# EAGLE library part SIM-HOLDER (library 23K_candrian)
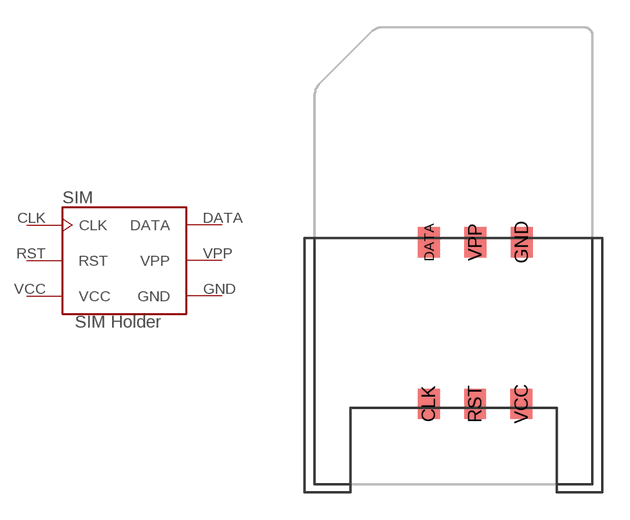
[diagram p2: symbol with the pads of SIM-HOLDER; footprint SIM-HOLDER]

Designator prefix SIM

## SIM-HOLDER  [SIM-HOLDER]
CLK  CLK  in
DATA  DATA
GND  GND  pwr
RST  RST  in
VCC  VCC  pwr
VPP  VPP  pwr

## Footprint SIM-HOLDER (pad centres in mm)
smd 1.2 x 1.65: CLK -1.63,-5.23; DATA -1.62,3.62; GND 3.46,3.62; RST 0.91,-5.23; VCC 3.45,-5.23; VPP 0.92,3.62